# EAGLE library part B7B-PH-* (library jst-ph)
Wire-to-Board 2.0mm pitch top mount connector Source: http://www.jst-mfg.com/product/pdf/jpn/PH.pdf http://www.jst-mfg.com/product/detail.php?series=199
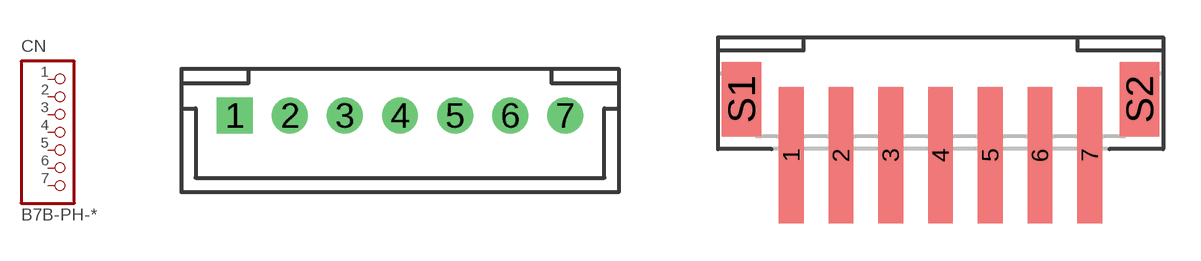
[diagram p1: symbol with the pads of B7B-PH-K-S; footprints B7B-PH-K-S, B7B-PH-SM4-TB]

Designator prefix CN

## B7B-PH-K-S  [B7B-PH-K-S]
1  1  pas
2  2  pas
3  3  pas
4  4  pas
5  5  pas
6  6  pas
7  7  pas

## B7B-PH-SM4-TB  [B7B-PH-SM4-TB]
Pads as for B7B-PH-K-S

## Footprint B7B-PH-K-S (pad centres in mm)
drill 0.8 square: 1 -6,0
drill 0.8: 2 -4,0; 3 -2,0; 4 0,0; 5 2,0; 6 4,0; 7 6,0

## Footprint B7B-PH-SM4-TB (pad centres in mm)
smd 1 x 5.5: 1 -6,-3.05; 2 -4,-3.05; 3 -2,-3.05; 4 0,-3.05; 5 2,-3.05; 6 4,-3.05; 7 6,-3.05
smd 1.6 x 3: S1 -8,-0.8; S2 8,-0.8